# Altium schematic symbol library AltiumLibrary.SchLib: 65 symbols
Pins are listed as number, name and electrical type; pins without a type are passive.

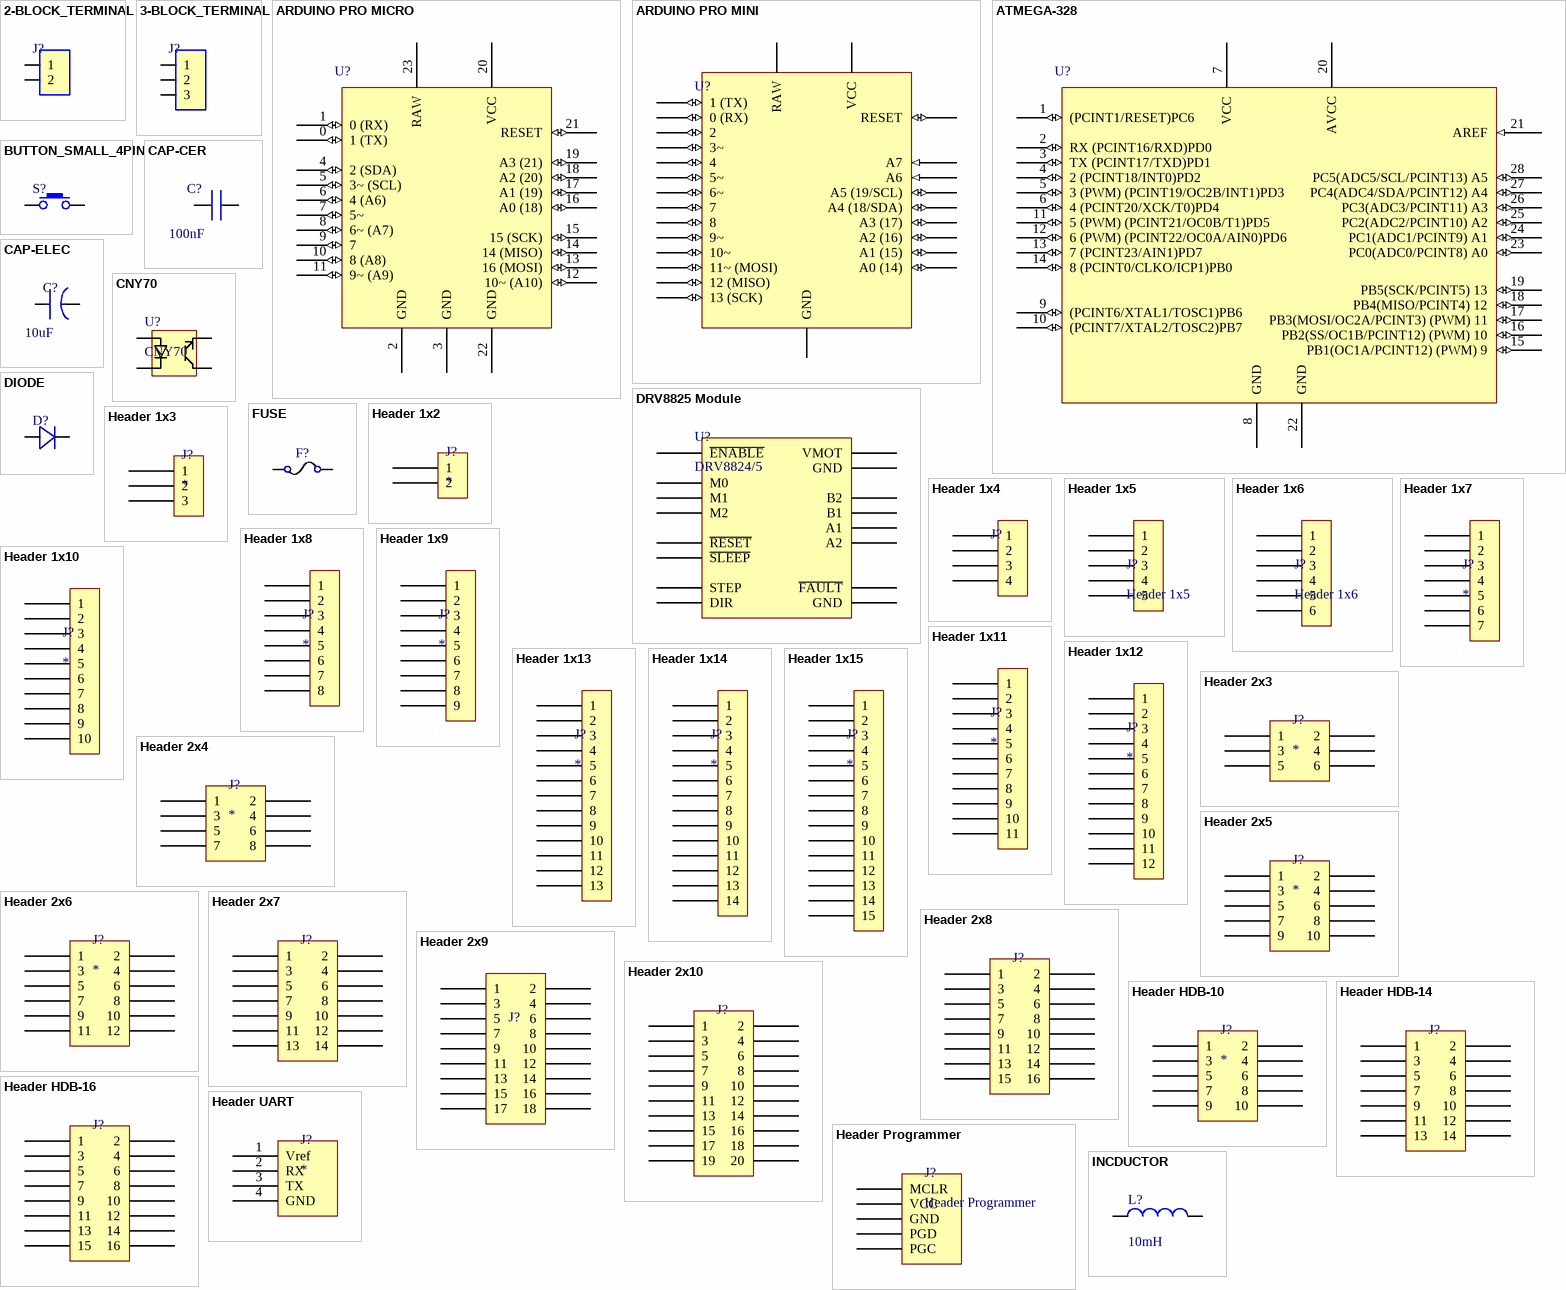
[diagram p0: symbols 2-BLOCK_TERMINAL to INCDUCTOR]

## 2-BLOCK_TERMINAL
designator J?  (value not drawn)
footprint BLOCK_TERMINAL-2
pins: 1, 2

## 3-BLOCK_TERMINAL
designator J?  (value not drawn)
footprint BLOCK_TERMINAL 3
pins: 1, 2, 3

## ARDUINO PRO MICRO
designator U?, comment Arduino Pro Micro  (value not drawn)
footprint ARDUINO PRO MICRO
pins: 0 1 (TX) (io), 1 0 (RX) (io), 2 GND (power), 3 GND (power), 4 2 (SDA) (io), 5 3~ (SCL) (io), 6 4 (A6) (io), 7 5~ (io), 8 6~ (A7) (io), 9 7 (io), 10 8 (A8) (io), 11 9~ (A9) (io), 12 10~ (A10) (io), 13 16 (MOSI) (io), 14 14 (MISO) (io), 15 15 (SCK) (io), 16 A0 (18) (io), 17 A1 (19) (io), 18 A2 (20) (io), 19 A3 (21) (io), 20 VCC (power), 21 RESET (io), 22 GND (power), 23 RAW (power)

## ARDUINO PRO MINI
designator U?, comment Arduino Pro Mini  (value not drawn)
footprint ARDUINO PRO MINI
pins: 0 1 (TX) (io), 1 0 (RX) (io), 4 2 (io), 5 3~ (io), 6 4 (io), 7 5~ (io), 8 6~ (io), 9 7 (io), 10 8 (io), 11 9~ (io), 12 10~ (io), 13 11~ (MOSI) (io), 14 12 (MISO) (io), 15 13 (SCK) (io), 16 A0 (14) (io), 17 A1 (15) (io), 18 A2 (16) (io), 19 A3 (17) (io), 20 A4 (18/SDA) (io), 21 A5 (19/SCL) (io), 22 A6 (in), 23 A7 (in), 24 VCC (power), 25 RESET (io), 26 GND (power), 27 RAW (power)

## ATMEGA-328
designator U?  (value not drawn)
footprint DIP28
pins: 1 (PCINT1/RESET)PC6 (io), 2 RX (PCINT16/RXD)PD0 (io), 3 TX (PCINT17/TXD)PD1 (io), 4 2 (PCINT18/INT0)PD2 (io), 5 3 (PWM) (PCINT19/OC2B/INT1)PD3 (io), 6 4 (PCINT20/XCK/T0)PD4 (io), 7 VCC (power), 8 GND (power), 9 (PCINT6/XTAL1/TOSC1)PB6 (io), 10 (PCINT7/XTAL2/TOSC2)PB7 (io), 11 5 (PWM) (PCINT21/OC0B/T1)PD5 (io), 12 6 (PWM) (PCINT22/OC0A/AIN0)PD6 (io), 13 7 (PCINT23/AIN1)PD7 (io), 14 8 (PCINT0/CLKO/ICP1)PB0  (io), 15 PB1(OC1A/PCINT12) (PWM) 9 (io), 16 PB2(SS/OC1B/PCINT12) (PWM) 10 (io), 17 PB3(MOSI/OC2A/PCINT3) (PWM) 11 (io), 18 PB4(MISO/PCINT4) 12 (io), 19 PB5(SCK/PCINT5) 13 (io), 20 AVCC (power), 21 AREF (in), 22 GND (power), 23 PC0(ADC0/PCINT8) A0 (io), 24 PC1(ADC1/PCINT9) A1 (io), 25 PC2(ADC2/PCINT10) A2 (io), 26 PC3(ADC3/PCINT11) A3 (io), 27 PC4(ADC4/SDA/PCINT12) A4 (io), 28 PC5(ADC5/SCL/PCINT13) A5 (io)

## BUTTON_SMALL_4PIN
designator S?  (value not drawn)
footprint TACT_SWITCH-SMALL-4PIN
footprint TACT-SWITCH-SMD
pins: 1, 2

## CAP-CER
designator C?  value 100nF  (hidden comment: *)
footprint CAP-CER
footprint CAP-0603
footprint CAP-1206
footprint CAP 0805
pins: 1, 2

## CAP-ELEC
designator C?  value 10uF  (hidden comment: *)
footprint CAP-ELEC-5x11x2mm
footprint CAP-CASE-D
pins: 1, 2

## CNY70
designator U?
footprint CNY70
pins: A, C, E 7.5, K

## DIODE
designator D?  (value not drawn)
NAME: 1N4007
footprint DO-41
footprint DO-214AC
pins: A, K

## DRV8825 Module
designator U?, comment DRV8824/5
footprint DRV8824/5
pins: 1 ~{ENABLE}, 2 M0, 3 M1, 4 M2, 5 ~{RESET}, 6 ~{SLEEP}, 7 STEP, 8 DIR, 9 GND, 10 ~{FAULT}, 11 A2, 12 A1, 13 B1, 14 B2, 15 GND, 16 VMOT

## FUSE
designator F?  (value not drawn)
RATING: 200mA
footprint FUSE_HOLDER_5x20
pins: 1 (power), 2 (power)

## Header 1x2
designator J?
footprint HEADER 1x2
pins: 1, 2

## Header 1x3
designator J?
footprint Header 1x3
pins: 1, 2, 3

## Header 1x4
designator J?  (value not drawn)
footprint Header 1x4
pins: 1, 2, 3, 4

## Header 1x5
designator J?
footprint Header 1x5
pins: 1, 2, 3, 4, 5

## Header 1x6
designator J?
footprint Header 1x6
pins: 1, 2, 3, 4, 5, 6

## Header 1x7
designator J?
footprint Header 1x7
pins: 1, 2, 3, 4, 5, 6, 7

## Header 1x8
designator J?
footprint HEADER 1X8
pins: 1, 2, 3, 4, 5, 6, 7, 8

## Header 1x9
designator J?
footprint HEADER 1x9
pins: 1, 2, 3, 4, 5, 6, 7, 8, 9

## Header 1x10
designator J?
footprint HEADER 1x10
pins: 1, 2, 3, 4, 5, 6, 7, 8, 9, 10

## Header 1x11
designator J?
footprint Header 1x11
pins: 1, 2, 3, 4, 5, 6, 7, 8, 9, 10, 11

## Header 1x12
designator J?
footprint Header 1x12
pins: 1, 2, 3, 4, 5, 6, 7, 8, 9, 10, 11, 12

## Header 1x13
designator J?
footprint Header 1x13
pins: 1, 2, 3, 4, 5, 6, 7, 8, 9, 10, 11, 12, 13

## Header 1x14
designator J?
footprint Header 1x14
pins: 1, 2, 3, 4, 5, 6, 7, 8, 9, 10, 11, 12, 13, 14

## Header 1x15
designator J?
footprint Header 1x15
pins: 1, 2, 3, 4, 5, 6, 7, 8, 9, 10, 11, 12, 13, 14, 15

## Header 2x3
designator J?
footprint HEADER 2x3
pins: 1, 2, 3, 4, 5, 6

## Header 2x4
designator J?
footprint HEADER 2x4
pins: 1, 2, 3, 4, 5, 6, 7, 8

## Header 2x5
designator J?
footprint HEADER 2x5
pins: 1, 2, 3, 4, 5, 6, 7, 8, 9, 10

## Header 2x6
designator J?
footprint HEADER 2x6
pins: 1, 2, 3, 4, 5, 6, 7, 8, 9, 10, 11, 12

## Header 2x7
designator J?  (value not drawn)
footprint HEADER 2x7
pins: 1, 2, 3, 4, 5, 6, 7, 8, 9, 10, 11, 12, 13, 14

## Header 2x8
designator J?  (value not drawn)
footprint HEADER 2x8
pins: 1, 2, 3, 4, 5, 6, 7, 8, 9, 10, 11, 12, 13, 14, 15, 16

## Header 2x9
designator J?  (value not drawn)
footprint HEADER 2x9
pins: 1, 2, 3, 4, 5, 6, 7, 8, 9, 10, 11, 12, 13, 14, 15, 16, 17, 18

## Header 2x10
designator J?  (value not drawn)
footprint HEADER 2x10
pins: 1, 2, 3, 4, 5, 6, 7, 8, 9, 10, 11, 12, 13, 14, 15, 16, 17, 18, 19, 20

## Header HDB-10
designator J?
footprint HEADER 2x5
pins: 1, 2, 3, 4, 5, 6, 7, 8, 9, 10

## Header HDB-14
designator J?  (value not drawn)
footprint HEADER 2x7
pins: 1, 2, 3, 4, 5, 6, 7, 8, 9, 10, 11, 12, 13, 14

## Header HDB-16
designator J?  (value not drawn)
footprint HEADER 2x8
pins: 1, 2, 3, 4, 5, 6, 7, 8, 9, 10, 11, 12, 13, 14, 15, 16

## Header Programmer
designator J?
footprint Header 1x5
pins: 1 MCLR, 2 VCC (power), 3 GND (power), 4 PGD, 5 PGC

## Header UART
designator J?
footprint Header 1x4
pins: 1 Vref, 2 RX, 3 TX, 4 GND

## INCDUCTOR
designator L?  value 10mH
footprint DRQ127-INDUCTOR
pins: 1, 2

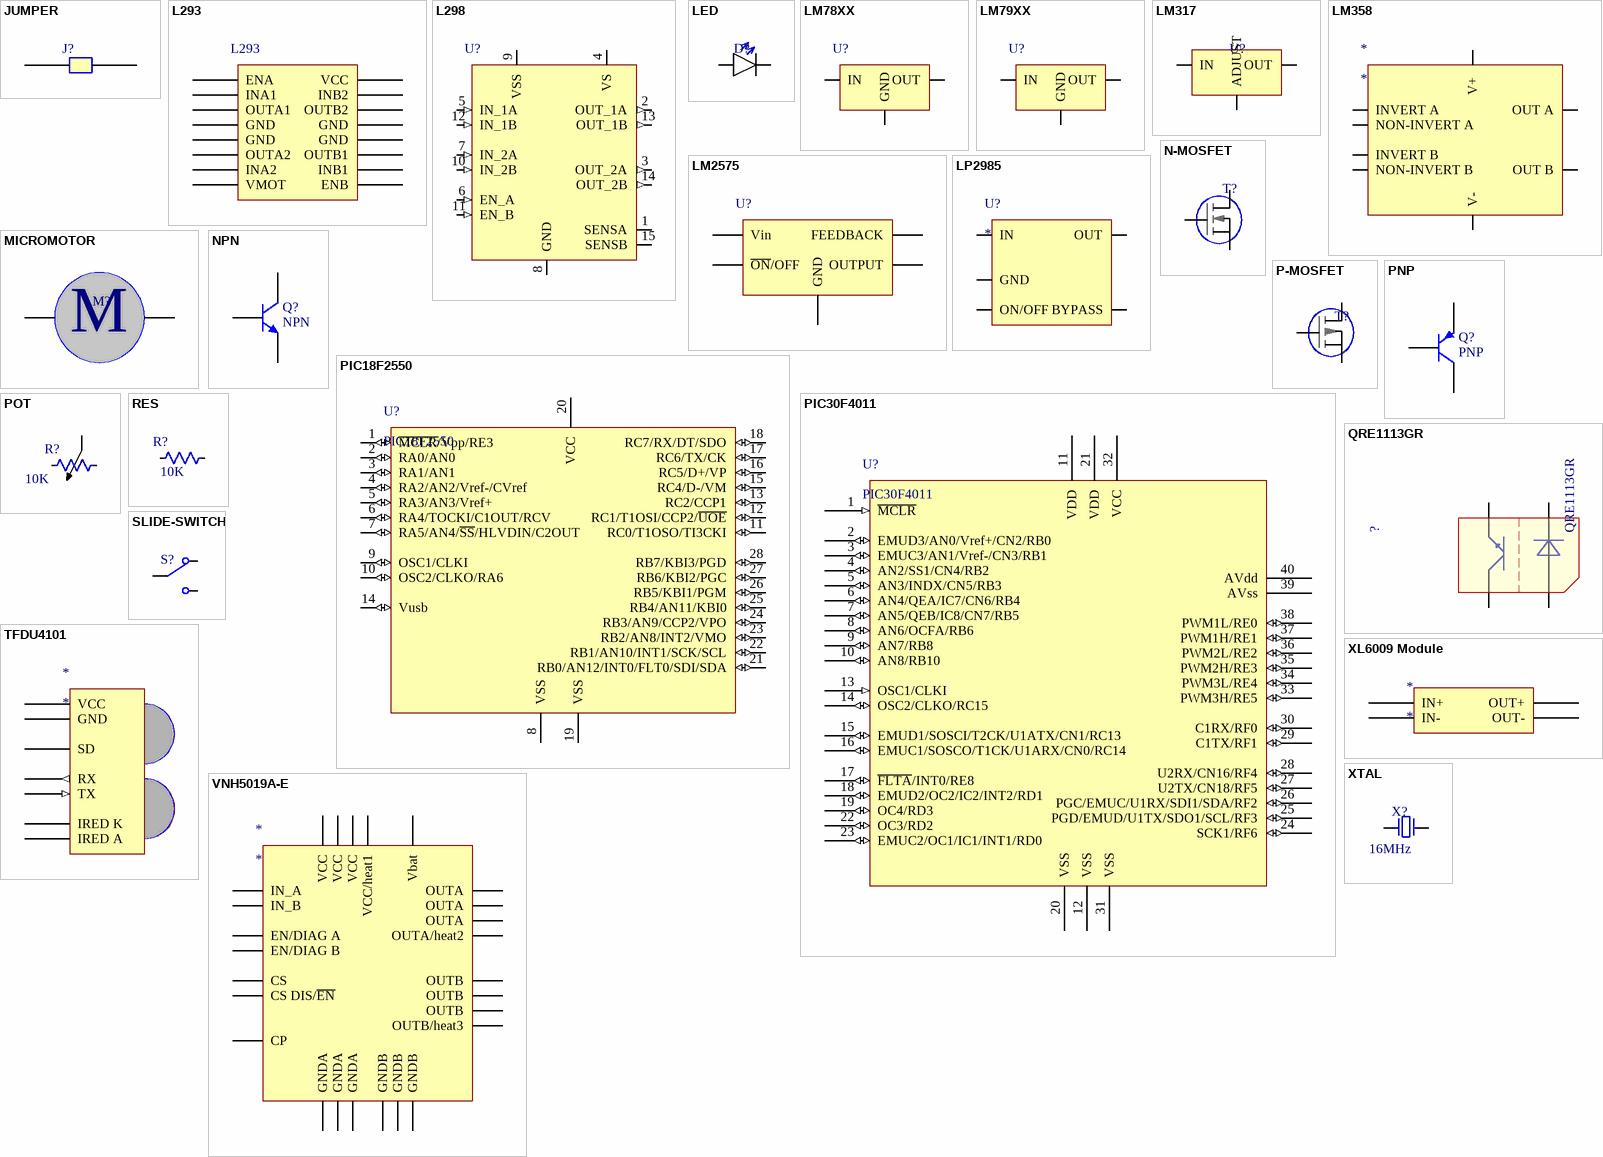
[diagram p1: symbols JUMPER to XTAL]

## JUMPER
designator J?  (value not drawn)
footprint JUMPER
pins: 1, 2

## L293
designator L293
footprint DIP16
footprint SOIC-16
pins: 1 ENA, 2 INA1, 3 OUTA1, 4 GND, 5 GND, 6 OUTA2, 7 INA2, 8 VMOT, 9 ENB, 10 INB1, 11 OUTB1, 12 GND, 13 GND, 14 OUTB2, 15 INB2, 16 VCC

## L298
designator U?  (value not drawn)
footprint Multiwatt15
pins: 1 SENSA (power), 2 OUT_1A (out), 3 OUT_2A (out), 4 VS (power), 5 IN_1A (in), 6 EN_A (in), 7 IN_2A (in), 8 GND (power), 9 VSS (power), 10 IN_2B (in), 11 EN_B (in), 12 IN_1B (in), 13 OUT_1B (out), 14 OUT_2B (out), 15 SENSB (power)

## LED
designator D?  (value not drawn)
footprint LED-3MM-GREEN
footprint LED-3MM-YELLOW
footprint LED-3MM-RED
footprint LED-0603-GREEN
footprint LED-0603-RED
footprint LED-0603-YELLOW
pins: A, K

## LM78XX
designator U?  (value not drawn)
footprint TO-220-STRAIGHT
footprint TO-252
footprint TO-220-FLAT
pins: 1 IN (power), 2 GND (power), 3 OUT (power)

## LM79XX
designator U?  (value not drawn)
footprint TO-220-STRAIGHT
footprint TO-252
footprint TO-220-FLAT
pins: 1 GND (power), 2 IN (power), 3 OUT (power)

## LM317
designator U?  (value not drawn)
footprint TO-220-FLAT
footprint TO-252
footprint TO-220-STRAIGHT
pins: 1 IN (power), 2 ADJUST (power), 3 OUT (power)

## LM358
designator *
footprint DIP8
pins: 1 OUT A, 2 INVERT A, 3 NON-INVERT A, 4 V-, 5 NON-INVERT B, 6 INVERT B, 7  OUT B, 8 V+ 

## LM2575
designator U?  (value not drawn)
footprint TO-220-5PIN
pins: 1 Vin (power), 2 OUTPUT (power), 3 GND (power), 4 FEEDBACK (power), 5 ~{ON}/OFF (power)

## LP2985
designator U?
footprint SOT-23-5
pins: 1 IN, 2 GND, 3 ON/OFF, 4 BYPASS, 5 OUT

## MICROMOTOR
designator M?  (value not drawn)
footprint MICROMOTOR
pins: 1, 2
text: M

## N-MOSFET
designator T?, comment N-MOS  (value not drawn)
footprint TO-220-MOSFET
footprint SOIC-8-MOSFET
pins: D, G, S

## NPN
designator Q?
footprint TO-92
footprint SOT-23
pins: B, C, E

## P-MOSFET
designator T?, comment P-MOS  (value not drawn)
footprint TO-220-MOSFET
footprint SOIC-8-MOSFET
pins: D, G, S

## PIC18F2550
designator U?
footprint DIP28
pins: 1 ~{MCLR}/Vpp/RE3 (io), 2 RA0/AN0 (io), 3 RA1/AN1 (io), 4 RA2/AN2/Vref-/CVref (io), 5 RA3/AN3/Vref+ (io), 6 RA4/TOCKI/C1OUT/RCV (io), 7 RA5/AN4/~{SS}/HLVDIN/C2OUT (io), 8 VSS (power), 9 OSC1/CLKI (io), 10 OSC2/CLKO/RA6 (io), 11 RC0/T1OSO/TI3CKI (io), 12 RC1/T1OSI/CCP2/~{UOE} (io), 13 RC2/CCP1 (io), 14 Vusb (io), 15 RC4/D-/VM (io), 16 RC5/D+/VP (io), 17 RC6/TX/CK (io), 18 RC7/RX/DT/SDO (io), 19 VSS (power), 20 VCC (power), 21 RB0/AN12/INT0/FLT0/SDI/SDA (io), 22 RB1/AN10/INT1/SCK/SCL (io), 23 RB2/AN8/INT2/VMO (io), 24 RB3/AN9/CCP2/VPO (io), 25 RB4/AN11/KBI0 (io), 26 RB5/KBI1/PGM (io), 27 RB6/KBI2/PGC (io), 28 RB7/KBI3/PGD (io)

## PIC30F4011
designator U?
footprint DIP40
pins: 1 ~{MCLR} (in), 2 EMUD3/AN0/Vref+/CN2/RB0 (io), 3 EMUC3/AN1/Vref-/CN3/RB1 (io), 4 AN2/SS1/CN4/RB2 (io), 5 AN3/INDX/CN5/RB3 (io), 6 AN4/QEA/IC7/CN6/RB4 (io), 7 AN5/QEB/IC8/CN7/RB5 (io), 8 AN6/OCFA/RB6 (io), 9 AN7/RB8 (io), 10 AN8/RB10 (io), 11 VDD (power), 12 VSS (power), 13 OSC1/CLKI (in), 14 OSC2/CLKO/RC15 (io), 15 EMUD1/SOSCI/T2CK/U1ATX/CN1/RC13 (io), 16 EMUC1/SOSCO/T1CK/U1ARX/CN0/RC14 (io), 17 ~{FLTA}/INT0/RE8 (io), 18 EMUD2/OC2/IC2/INT2/RD1 (io), 19 OC4/RD3 (io), 20 VSS (power), 21 VDD (power), 22 OC3/RD2 (io), 23 EMUC2/OC1/IC1/INT1/RD0 (io), 24 SCK1/RF6 (io), 25 PGD/EMUD/U1TX/SDO1/SCL/RF3 (io), 26 PGC/EMUC/U1RX/SDI1/SDA/RF2 (io), 27 U2TX/CN18/RF5 (io), 28 U2RX/CN16/RF4 (io), 29 C1TX/RF1 (io), 30 C1RX/RF0 (io), 31 VSS (power), 32 VCC (power), 33 PWM3H/RE5 (io), 34 PWM3L/RE4 (io), 35 PWM2H/RE3 (io), 36 PWM2L/RE2 (io), 37 PWM1H/RE1 (io), 38 PWM1L/RE0 (io), 39 AVss (power), 40 AVdd (power)

## PNP
designator Q?
footprint TO-92
footprint SOT-23
pins: B, C, E

## POT
designator R?  value 10K
footprint POT-10TURN
footprint POT-10ROT
pins: 1, 2, 2

## QRE1113GR
designator ?
MF: ON Semiconductor; Price: 0.46 USD; MP: QRE1113GR; Package: SMD-4 ON Semiconductor; Availability: Good; Value: *
footprint 4LEADSMD_QRE1113GR(Primary)
pins: A, C, E, K

## RES
designator R?  value 10K
footprint RES-Axial-400mil
footprint RES-AXIAL-5W
footprint RES-0603
footprint RES-1206
footprint RES 0805 (Chip Resistor, 2-Leads, Body 2.00x1.25mm, IPC Medium Density)
pins: 1, 2

## SLIDE-SWITCH
designator S?  (value not drawn)
footprint SWITCH
pins: 1 (power), 2 (power), 3 (power)

## TFDU4101
designator *
footprint SOP-8-LINEAL
pins: 1 IRED A, 2 IRED K, 3 TX (in), 4 RX (out), 5 SD "Shutdown", 6 VCC (power), 8 GND (power)

## VNH5019A-E
designator *
pins: 1 OUTA, 3 VCC, 4 IN_A, 5 EN/DIAG A, 6 CS DIS/~{EN}, 8 CS, 9 EN/DIAG B, 10 IN_B, 11 CP, 12 Vbat, 13 VCC, 15 OUTB, 16 OUTB, 18 GNDB, 19 GNDB, 20 GNDB, 21 OUTB, 23 VCC, 25 OUTA, 26 GNDA, 27 GNDA, 28 GNDA, 30 OUTA, OUTA OUTA/heat2, OUTB OUTB/heat3, VCC VCC/heat1

## XL6009 Module
designator *
footprint XL6009 mdl
pins: 0 IN+, 1 IN-, 2 OUT-, 3 OUT+

## XTAL
designator X?  FREQUENCY: 16MHz  (hidden comment: *)
footprint CRYSTAL-TH
pins: 1, 2